# EAGLE library part CY8C4013SXI-400 (library RadEagleLib)
IC MCU 32BIT 8K FLASH 8-SOIC, PACKAGE 8-SOIC, CYPRESS:CY8C4013SXI-400
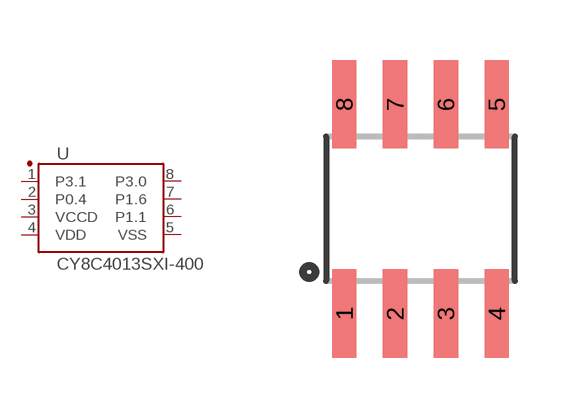
[diagram p2: symbol with the pads of CY8C4013SXI-400-SO08; footprint CY8C4013SXI-400-SO08]

Designator prefix U

## CY8C4013SXI-400  [CY8C4013SXI-400-SO08]
1  P3.1
2  P0.4
3  VCCD
4  VDD
5  VSS
6  P1.1
7  P1.6
8  P3.0

## Footprint CY8C4013SXI-400-SO08 (pad centres in mm)
Small Outline Package Fits JEDEC packages (narrow SOIC-8)
smd 0.61 x 2.21: 1 -1.905,-2.616; 2 -0.635,-2.616; 3 0.635,-2.616; 4 1.905,-2.616; 5 1.905,2.616; 6 0.635,2.616; 7 -0.635,2.616; 8 -1.905,2.616